# Altium schematic symbol library us_#2.SCHLIB: 14 symbols
Pins are listed as number, name and electrical type; pins without a type are passive.

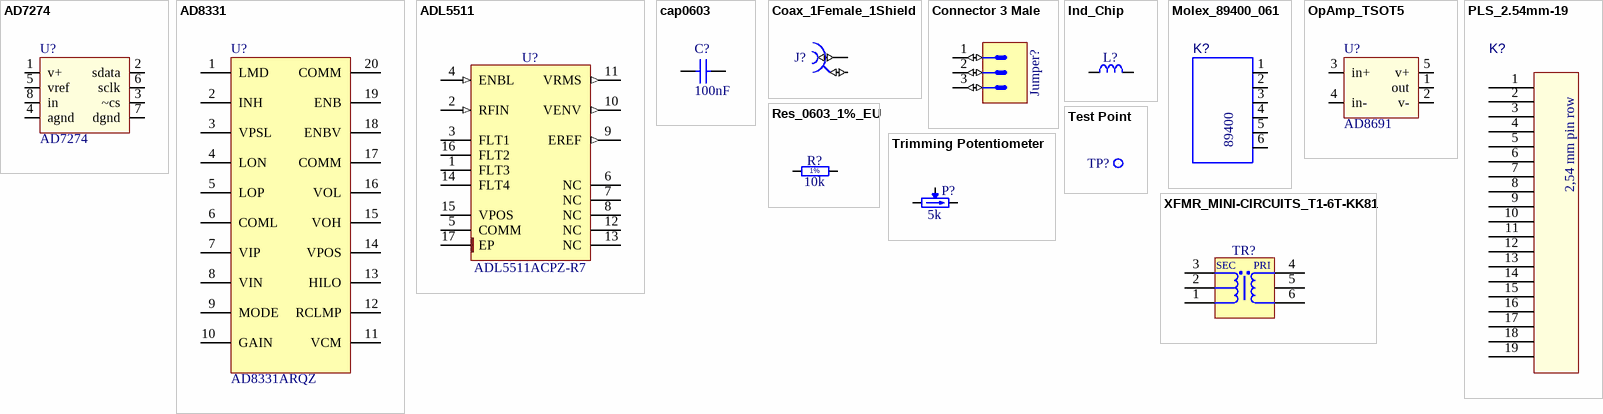
[diagram p0: symbols AD7274 to XFMR_MINI-CIRCUITS_T1-6T-KK81]

## AD7274
designator U?
adc serial
footprint RM-8 (Shrink Small Outline, MSOP; 8 Leads; Body Width 3 mm; Pitch 0.65 mm)
pins: 1 v+, 2 sdata, 3 ~cs, 4 agnd, 5 vref, 6 sclk, 7 dgnd, 8 in

## AD8331
designator U?, comment AD8331ARQZ
Part Description: Ultralow Noise VGAs with Preamplifier and Programmable RIN; Manufacturer: Analog Devices; Table: Analog & Interface; Part Number: AD8331ARQZ; Component Kind: Standard; Component Type: Standard; Device: AD8331ARQZ; Footprint: SOP64P600X175-20N; PackageDescription: SOP, 20-Leads, Body 8.66x3.91mm, Pitch 0.64mm, IPC Medium Density; Manufacturer Part Number: AD8331ARQZ; Pin Count: 20; Case: QSOP-20; Mounted: Yes; Socket: No; SMD: Yes; ComponentHeight: 1.75mm; Author: S. Jafar; CreateDate: 12/20/2015; LatestRevisionDate: 1/6/2016
footprint SOP64P600X175-20N
pins: 1 LMD, 2 INH, 3 VPSL, 4 LON, 5 LOP, 6 COML, 7 VIP, 8 VIN, 9 MODE, 10 GAIN, 11 VCM, 12 RCLMP, 13 HILO, 14 VPOS, 15 VOH, 16 VOL, 17 COMM, 18 ENBV, 19 ENB, 20 COMM

## ADL5511
designator U?, comment ADL5511ACPZ-R7
DC to 6 GHz Envelope and TruPwr RMS Detector; Manufacturer: ANALOG DEVICES; Table: Analog & Interface; Part Number: ADL5511ACPZ-R7; Component Kind: Standard; Component Type: Standard; Device: ADL5511ACPZ-R7; Footprint: QFN50P300X300X80-17N-S175; PackageDescription: QFN, 0.50mm Pitch, Square; 16 Pin, 3.00mm L X 3.00mm W X 0.80mm H Body (w/Thermal Tab 1.75 X 1.75mm),  IPC Medium Density; Part Description: DC to 6 GHz Envelope and TruPwr RMS Detector; Manufacturer Part Number: ADL5511ACPZ-R7; Pin Count: 17; Case: QFN16; Mounted: Yes; Socket: No; SMD: Yes; ComponentHeight: 0.8mm; Author: CERN DEM JLC; HelpURL: \\cern.ch\dfs\Applications\Altium\Datasheets\ADL5511ACPZ-R7.pdf; CreateDate: 11/15/2012; LatestRevisionDate: 11/15/2012
footprint QFN50P300X300X80-17N-S175
pins: 1 FLT3, 2 RFIN (in), 3 FLT1, 4 ENBL (in), 5 COMM (power), 6 NC, 7 NC, 8 NC, 9 EREF (out), 10 VENV (out), 11 VRMS (out), 12 NC, 13 NC, 14 FLT4, 15 VPOS (power), 16 FLT2, 17 EP (power)

## cap0603
designator C?  value 100nF  (hidden comment: cap0603)
Capacitor  0603 inch; Published: 8-Jun-2000; LatestRevisionDate: 17-Jul-2002; LatestRevisionNote: Re-released for DXP Platform.; PackageReference: RAD-0.3; Publisher: Altium Limited; PackageDescription: Radial Cap, Thru-Hole; 2 Leads; 0.3 in Pin Spacing
signal-integrity model Cap
footprint SM0603 _3D_cap (standard  0603 inch size)
pins: 1, 2

## Coax_1Female_1Shield
designator J?, comment SMA  (value not drawn)
Part Number: AMPHENOL_132357-11; Part Description: SMA End Launch Jack for 1.58mm PCB, 50 Ohm, Flat Tab Contact; Manufacturer: AMPHENOL; Manufacturer Part Number: 132357-11; Component Kind: Standard; Component Type: Standard; Footprint: AMPHENOL_132357-11; Pin Count: 2; Family: SMA; Mounted: Yes; Socket: No; SMD: Yes; Status: None; ComponentHeight: 7.92mm; HelpURL: \\cern.ch\dfs\Applications\Altium\Datasheets\AMPHENOL_132357-11.pdf; Author: CERN DEM JLC; CreateDate: 5/14/2012; LatestRevisionDate: 5/14/2012; Table: AMPHENOL
footprint AMPHENOL_132357-11
pins: 1 (io), 2 (io)

## Connector 3 Male
designator Jumper?
Connector 3 Male; Part Number: SULLINS_GRPB031VWVN; Part Description: 3 Contact 0.5" Pitch Single-In-Line Vertical Header; Manufacturer: SULLINS; Manufacturer Part Number: GRPB031VWVN; Table: Miscellaneous; Component Kind: Standard; Component Type: Standard; Footprint: SULLINS_GRPB031VWVN; Pin Count: 3; Mounted: Yes; Socket: No; SMD: No; Status: None; ComponentHeight: 4mm; Author: S. Jafar; CreateDate: 12/29/2015; LatestRevisionDate: 12/29/2015
footprint SULLINS_GRPB031VWVN
pins: 1 (io), 2 (io), 3 (io)
1 alternate drawing of the same symbol

## Ind_Chip
designator L?, comment 75R@100MHz  (value not drawn)
chip inductance; Part Number: IND0805_MURATA_BLM21BB750SN1D; Part Description: SMD EMIFIL Suppression Chip Ferrite Bead; Manufacturer: MURATA; Manufacturer Part Number: BLM21BB750SN1D; Power: 700mA; Resistance: 0.16R; Tolerance: ±25%; Table: Inductors SMD; Component Kind: Standard; Component Type: Standard; Footprint: INDC2012X105N; Pin Count: 2; Value: 75R@100MHz; Status: None; Case: 0805; Mounted: Yes; Socket: No; SMD: Yes; ComponentHeight: 1.05mm; Author: S. Jafar; CreateDate: 12/21/2015; LatestRevisionDate: 12/21/2015
footprint SM_0805_INDUCTANCE _3D (chip inductanse 0805 inch)
pins: 1, 2

## Molex_89400_061
designator K?  (value not drawn)
6 pin vertical 2mm; Value: *
footprint Molex_89400-061 (vertical 6 pin 2mm pitch)
pins: 1, 2, 3, 4, 5, 6
text: 89400

## OpAmp_TSOT5
designator U?, comment AD8691
footprint TSOT-5(RT-5) (SOT-23/SC-74A; 5 Leads; Body 3.1 x 3 mm, inc. leads (LxW max))
pins: 1 out, 2 v-, 3 in+, 4 in-, 5 v+

## PLS_2.54mm-19
designator K?  (value not drawn)
footprint PLS_2.54mm-19 (soldering pads)
pins: 1, 2, 3, 4, 5, 6, 7, 8, 9, 10, 11, 12, 13, 14, 15, 16, 17, 18, 19
text: 2,54 mm pin row

## Res_0603_1%_EU
designator R?, comment 10k
Res_0603_1%_EU; Part Number: R1206_4K7_1%_0.25W_100PPM; Part Description: General Purpose Thick Film Chip Resistor; Manufacturer: GENERIC; Manufacturer1 Part Number: NRC12F4701TRF; Value: 4k7; Power: 0.25W; TC: ±100ppm/°C; Tolerance: ±1%; Table: Resistors SMD; Component Kind: Standard; Component Type: Standard; Footprint: RESC3216X65N; Pin Count: 2; Status: Preferred; Manufacturer Part Number: R1206_4K7_1%_0.25W_100PPM; Case: 1206; Mounted: Yes; Socket: No; SMD: Yes; Manufacturer1 Example: NIC COMPONENT; Manufacturer1 ComponentHeight: 0.65mm; HelpURL: \\cern.ch\dfs\Applications\Altium\Datasheets\R1206_NIC_NRC.pdf; Author: CERN DEM JLC; CreateDate: 12/3/2007; LatestRevisionDate: 3/13/2008
footprint SM0603_3D_res (0603 inch resistor)
pins: 1, 2
text: 1%

## Test Point
designator TP?  (value not drawn)
Part Number: NICOMATIC_C12000B; Part Description: SMD Test Point; Manufacturer: NICOMATIC; Manufacturer Part Number: C12000B; Table: Miscellaneous; Component Kind: Standard; Component Type: Standard; Footprint: NICOMATIC_C12000B; Pin Count: 1; Family: Test Point; Mounted: Yes; Socket: No; SMD: Yes; Status: None; ComponentHeight: 1.5mm; HelpURL: \\cern.ch\dfs\Applications\Altium\Datasheets\NICOMATIC_C12000B.pdf; Author: CERN DEM JLC; CreateDate: 3/25/2009; LatestRevisionDate: 3/25/2009
footprint NICOMATIC_C12000B
pins: 1 (io)

## Trimming Potentiometer
designator P?, comment 5k
Trimming Potentiometer; Part Number: TRIM_11T_5K_BOURNS_3223W-1-502E; Part Description: 11 Turns SMD Trimpot® Trimming Potentiometer (Top Adjust); Manufacturer: BOURNS; Manufacturer Part Number: 3223W-1-502E; Power: 0.125W; TC: ±100ppm/°C; Tolerance: ±20%; Table: Potentiometers SMD; Component Kind: Standard; Component Type: Standard; Footprint: TRIM_BOURNS_3223W; Pin Count: 3; Value: 5k; Case: 3223W; Mounted: Yes; Socket: No; SMD: Yes; ComponentHeight: 4.16mm; HelpURL: \\cern.ch\dfs\Applications\Altium\Datasheets\TRIM_BOURNS_3223W.pdf; Author: CERN DEM JLC; CreateDate: 3/31/2011; LatestRevisionDate: 12/18/2012
footprint TRIM_BOURNS_3223W
pins: 1 CCW, 2 W, 3 CW

## XFMR_MINI-CIRCUITS_T1-6T-KK81
designator TR?, comment 1:1  (value not drawn)
50 Ohm 0.015 To 300MHz RF Transformers; Part Number: XFMR_MINI-CIRCUITS_T1-6T-KK81; Part Description: 50 Ohms 0.015 To 300MHz RF Transformers; Manufacturer: MINI-CIRCUITS; Manufacturer Part Number: T1-6T-KK81; Component Kind: Standard; Component Type: Standard; Footprint: XFMR_MINI-CIRCUITS_KK81; Pin Count: 5; Value: 1:1; Status: None; Mounted: Yes; Socket: No; SMD: Yes; ComponentHeight: 6.6mm; Author: S. Jafar; CreateDate: 12/22/2015; LatestRevisionDate: 1/10/2016; Table: Transformers
footprint XFMR_MINI-CIRCUITS_KK81
pins: 1 P, 2 NC, 3 PDOT, 4 SDOT, 5 NC, 6 S
text: SEC; PRI